# Altium schematic symbol library Logical.SchLib: 1 symbol
Pins are listed as number, name and electrical type; pins without a type are passive.

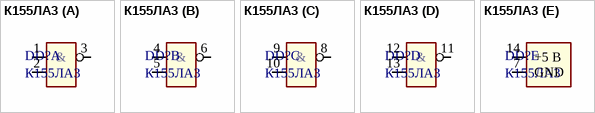
[diagram p0: symbol К155ЛА3]

## К155ЛА3
designator DD?
4 х 2И-НЕ
footprint DIP-14 (DIP; 14 Leads; Row Spacing 7.62 mm; Pitch 2.54 mm)
part A pins: 1, 2, 3
part B pins: 4, 5, 6
part C pins: 8, 9, 10
part D pins: 11, 12, 13
part E pins: 7 GND, 14 +5 В
part A text: &
part B text: &
part C text: &
part D text: &